# EAGLE library part BSL308C (library infineon)
BSL308C Complementary power MOSFETs - an n-channel and a p-channel power MOSFET within the same package - are part of Infineon’s famous low voltage OptiMOS™ families URL: http://www.infineon.com/cms/de/product/power/mosfet/power-mosfet/complementary-20v-60v/BSL308C/productType.html?productType=db3a304442b7c1190142d715b4ac330e
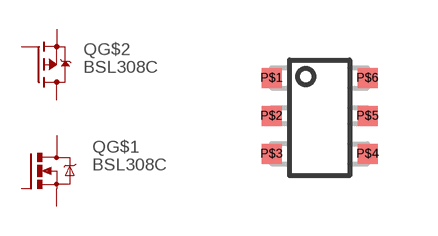
[diagram p3: symbol with the pads of TSOP-6; footprint TSOP-6]

Designator prefix Q; gates G$1=MOSFET_N-KANAL G$2=P-MOSFET

## BSL308C  [TSOP-6]
P$1  G$1:G  pas
P$2  G$2:S  pas
P$3  G$2:G  pas
P$4  G$2:D  pas
P$5  G$1:S  pas
P$6  G$1:D  pas

## Footprint TSOP-6 (pad centres in mm)
smd 0.5 x 0.5: P$1 0.25,-0.25; P$2 0.25,-1.2; P$3 0.25,-2.15; P$4 2.65,-2.15; P$5 2.65,-1.2; P$6 2.65,-0.25